# Altium schematic symbol library LT1016.Schlib: 1 symbol
Pins are listed as number, name and electrical type; pins without a type are passive.

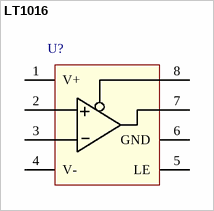
[diagram p0: symbol LT1016]

## LT1016
designator U?  (value not drawn)
Comparator, Single, UltraFast
pins: 1 V+, 2 +, 3 -, 4 V-, 5 LE, 6 GND, 7 Q, 8 ~{Q}